# EAGLE library part IMC11 (library con-phoenix-381_l)
Invertierter Mini-Combicon 3.81mm horizontal 11-polig IMC 1,5/11-G-3,81 (ohne Gegenstecker)
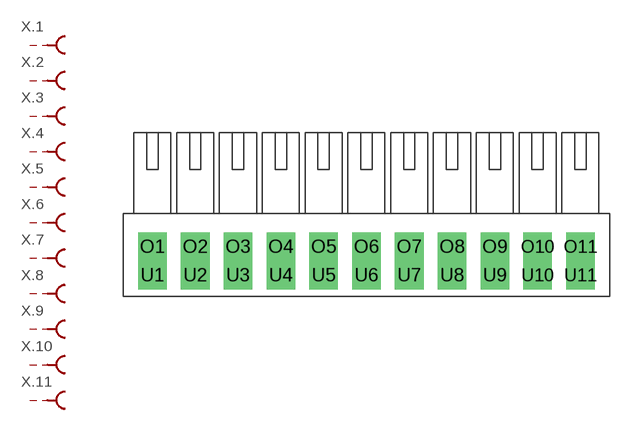
[diagram p26: symbol with the pads of IMC11; footprint IMC11]

Designator prefix X; gates .6=MCBU .5=MCBU .4=MCBU .3=MCBU .2=MCBU .1=MCBU .7=MCBU .8=MCBU .9=MCBU .10=MCBU .11=MCBU

## IMC11  [IMC11]
O1  .1:S  pas
O2  .2:S  pas
O3  .3:S  pas
O4  .4:S  pas
O5  .5:S  pas
O6  .6:S  pas
O7  .7:S  pas
O8  .8:S  pas
O9  .9:S  pas
O10  .10:S  pas
O11  .11:S  pas
U1  .1:SK  pas
U2  .2:SK  pas
U3  .3:SK  pas
U4  .4:SK  pas
U5  .5:SK  pas
U6  .6:SK  pas
U7  .7:SK  pas
U8  .8:SK  pas
U9  .9:SK  pas
U10  .10:SK  pas
U11  .11:SK  pas

## Footprint IMC11 (pad centres in mm)
Mini-Combicon 3.81mm horizontal 11-polig invertiert (ohne Gegenstecker)
drill 1.27 pad 2.54 square: O1 -19.05,1.27; O2 -15.24,1.27; O3 -11.43,1.27; O4 -7.62,1.27; O5 -3.81,1.27; O6 0,1.27; O7 3.81,1.27; O8 7.62,1.27; O9 11.43,1.27; O10 15.24,1.27; O11 19.05,1.27; U1 -19.05,-1.27; U2 -15.24,-1.27; U3 -11.43,-1.27; U4 -7.62,-1.27; U5 -3.81,-1.27; U6 0,-1.27; U7 3.81,-1.27; U8 7.62,-1.27; U9 11.43,-1.27; U10 15.24,-1.27; U11 19.05,-1.27